# Altium footprint library Serial_NOR_Flash.PcbLib: 12 footprints
Each footprint in its own frame and in the unit in brackets; x right, y up, seen from the top. Pads: shape width x height; smd on the part's side, far side on the other; paste and mask are expansions set on the pad; w line width, h text height; cw(c..) or ccw(c..) is an arc to the next point about the centre after c.
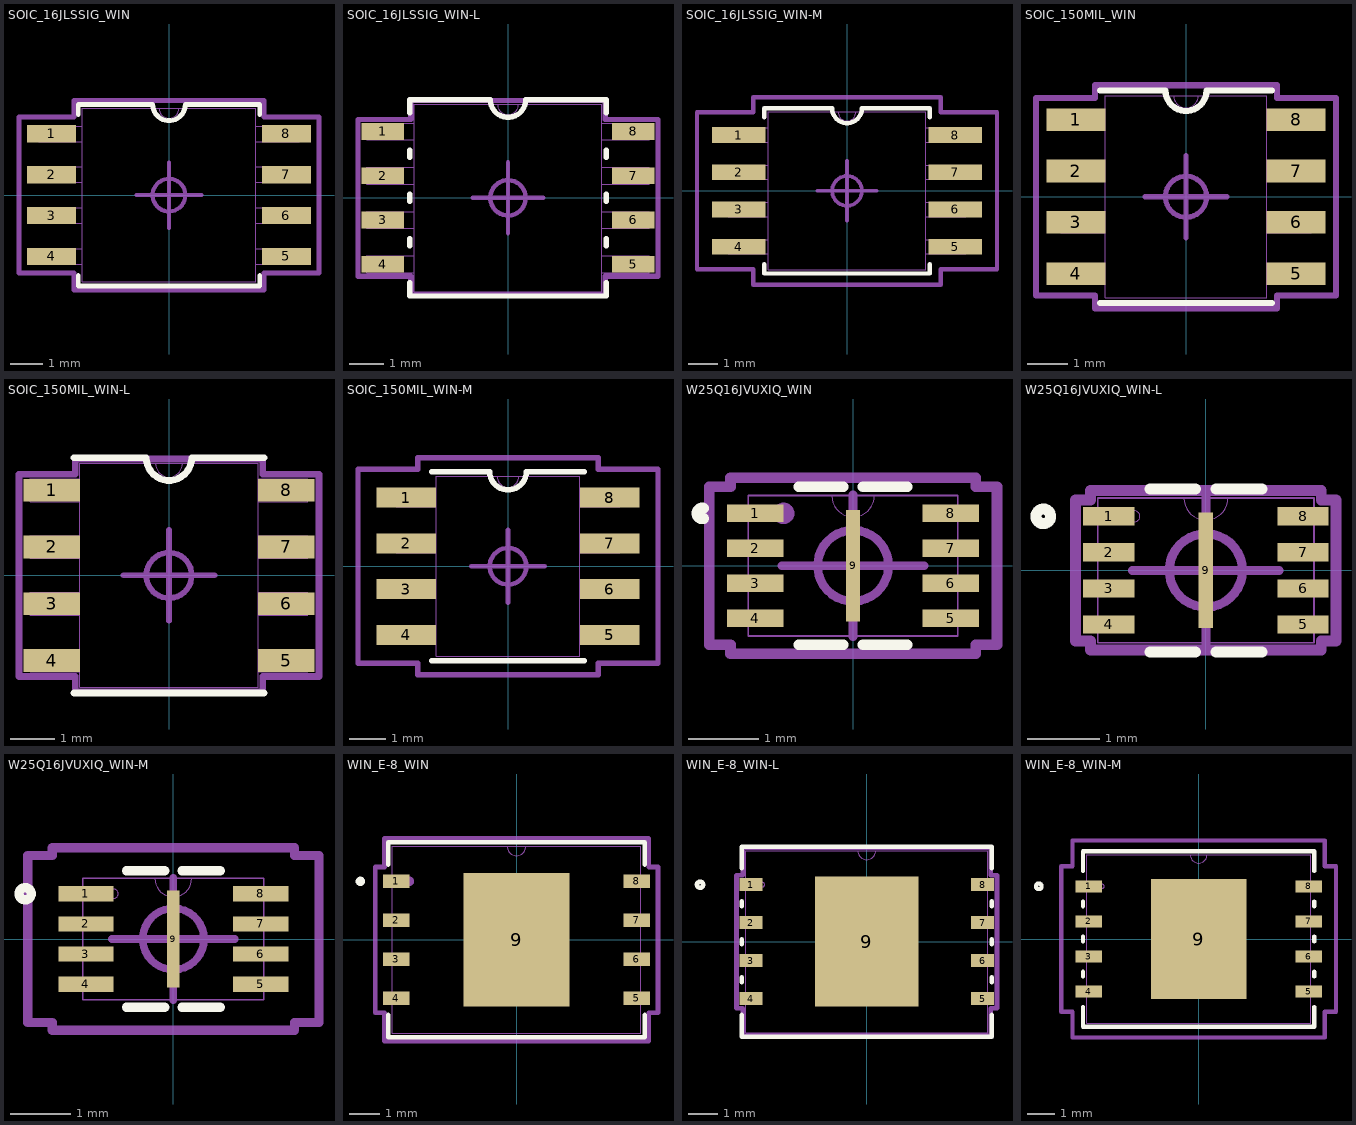
[diagram p0: the footprints below, top view; thin cyan lines are the x and y axes]

## SOIC_16JLSSIG_WIN [mil]
pads (8):
  rect 60x21 smd: 1(-143.5,75) 2(-143.5,25) 3(-143.5,-25) 4(-143.5,-75) 5(143.5,-75) 6(143.5,-25) 7(143.5,25) 8(143.5,75)
Top Overlay:
  lines w6: -111,-98.36 -111,-111 111,-111 111,-98.36 ; -111,98.36 -111,111 -20,111 ccw(c0,111) 20,111 111,111 111,98.36
Mechanical 13:
  lines w0: -12,106 ccw(c0,106) 12,106
  lines w1: -159.5,-84.5 -106,-84.5 -106,-65.5 -159.5,-65.5 -159.5,-84.5 ; -159.5,-34.5 -106,-34.5 -106,-15.5 -159.5,-15.5 -159.5,-34.5 ; -159.5,15.5 -106,15.5 -106,34.5 -159.5,34.5 -159.5,15.5 ; -159.5,65.5 -106,65.5 -106,84.5 -159.5,84.5 -159.5,65.5 ; -106,-106 -106,106 106,106 106,-106 -106,-106 ; 106,-84.5 159.5,-84.5 159.5,-65.5 106,-65.5 106,-84.5 ; 106,-34.5 159.5,-34.5 159.5,-15.5 106,-15.5 106,-34.5 ; 106,15.5 159.5,15.5 159.5,34.5 106,34.5 106,15.5 ; 106,65.5 159.5,65.5 159.5,84.5 106,84.5 106,65.5
Mechanical 15:
  circle w5: c0,0 r20
  lines w5: -40,0 40,0 ; 0,-40 0,40
  lines w6: -183.5,-95.5 -116,-95.5 -116,-116 116,-116 116,-95.5 183.5,-95.5 183.5,95.5 116,95.5 116,116 -116,116 -116,95.5 -183.5,95.5 -183.5,-95.5
3D body "SOIC_16JLSSIG_WIN.step": height 85.12, standoff 0, extent -159.49,-105.98 159.49,105.98

## SOIC_16JLSSIG_WIN-L [mil]
pads (8):
  rect 48x19 smd paste+0: 1(-141.5,75) 2(-141.5,25) 3(-141.5,-25) 4(-141.5,-75) 5(141.5,-75) 6(141.5,-25) 7(141.5,25) 8(141.5,75)
Top Overlay:
  lines w6: -111,-95.87 -111,-111 111,-111 111,-95.87 ; -111,-54.13 -111,-45.87 ; -111,-4.13 -111,4.13 ; -111,45.87 -111,54.13 ; -111,95.87 -111,111 -20,111 ccw(c0,111) 20,111 111,111 111,95.87 ; 111,-54.13 111,-45.87 ; 111,-4.13 111,4.13 ; 111,45.87 111,54.13
Mechanical 13:
  lines w0: -12,106 ccw(c0,106) 12,106
  lines w1: -159.5,-84.5 -106,-84.5 -106,-65.5 -159.5,-65.5 -159.5,-84.5 ; -159.5,-34.5 -106,-34.5 -106,-15.5 -159.5,-15.5 -159.5,-34.5 ; -159.5,15.5 -106,15.5 -106,34.5 -159.5,34.5 -159.5,15.5 ; -159.5,65.5 -106,65.5 -106,84.5 -159.5,84.5 -159.5,65.5 ; -106,-106 -106,106 106,106 106,-106 -106,-106 ; 106,-84.5 159.5,-84.5 159.5,-65.5 106,-65.5 106,-84.5 ; 106,-34.5 159.5,-34.5 159.5,-15.5 106,-15.5 106,-34.5 ; 106,15.5 159.5,15.5 159.5,34.5 106,34.5 106,15.5 ; 106,65.5 159.5,65.5 159.5,84.5 106,84.5 106,65.5
Mechanical 15:
  circle w5: c0,0 r20
  lines w5: -40,0 40,0 ; 0,-40 0,40
  lines w6: -169.5,-88.5 -110,-88.5 -110,-110 110,-110 110,-88.5 169.5,-88.5 169.5,88.5 110,88.5 110,110 -110,110 -110,88.5 -169.5,88.5 -169.5,-88.5
3D body "SOIC_16JLSSIG_WIN.step": height 85.12, standoff 0, extent -159.49,-105.98 159.49,105.98

## SOIC_16JLSSIG_WIN-M [mil]
pads (8):
  rect 72x21 smd: 1(-145.5,75) 2(-145.5,25) 3(-145.5,-25) 4(-145.5,-75) 5(145.5,-75) 6(145.5,-25) 7(145.5,25) 8(145.5,75)
Top Overlay:
  lines w6: -111,-98.6 -111,-111 111,-111 111,-98.6 ; -111,98.6 -111,111 -20,111 ccw(c0,111) 20,111 111,111 111,98.6
Mechanical 13:
  lines w0: -12,106 ccw(c0,106) 12,106
  lines w1: -159.5,-84.5 -106,-84.5 -106,-65.5 -159.5,-65.5 -159.5,-84.5 ; -159.5,-34.5 -106,-34.5 -106,-15.5 -159.5,-15.5 -159.5,-34.5 ; -159.5,15.5 -106,15.5 -106,34.5 -159.5,34.5 -159.5,15.5 ; -159.5,65.5 -106,65.5 -106,84.5 -159.5,84.5 -159.5,65.5 ; -106,-106 -106,106 106,106 106,-106 -106,-106 ; 106,-84.5 159.5,-84.5 159.5,-65.5 106,-65.5 106,-84.5 ; 106,-34.5 159.5,-34.5 159.5,-15.5 106,-15.5 106,-34.5 ; 106,15.5 159.5,15.5 159.5,34.5 106,34.5 106,15.5 ; 106,65.5 159.5,65.5 159.5,84.5 106,84.5 106,65.5
Mechanical 15:
  circle w5: c0,0 r20
  lines w5: -40,0 40,0 ; 0,-40 0,40
  lines w6: -201.5,-105.5 -126,-105.5 -126,-126 126,-126 126,-105.5 201.5,-105.5 201.5,105.5 126,105.5 126,126 -126,126 -126,105.5 -201.5,105.5 -201.5,-105.5
3D body "SOIC_16JLSSIG_WIN.step": height 85.12, standoff 0, extent -159.49,-105.98 159.49,105.98

## SOIC_150MIL_WIN [mil]
pads (8):
  rect 57.5x22 smd: 1(-107.25,75) 2(-107.25,25) 3(-107.25,-25) 4(-107.25,-75) 5(107.25,-75) 6(107.25,-25) 7(107.25,25) 8(107.25,75)
Top Overlay:
  lines w6: -83.5,-103.5 83.5,-103.5 ; -83.5,103.5 -20,103.5 ccw(c0,103.5) 20,103.5 83.5,103.5
Mechanical 13:
  lines w0: -12,98.5 ccw(c0,98.5) 12,98.5
  lines w1: -122,-85 -122,-65 -78.5,-65 -78.5,-85 -122,-85 ; -122,-35 -122,-15 -78.5,-15 -78.5,-35 -122,-35 ; -122,15 -122,35 -78.5,35 -78.5,15 -122,15 ; -122,65 -122,85 -78.5,85 -78.5,65 -122,65 ; -78.5,-98.5 78.5,-98.5 78.5,98.5 -78.5,98.5 -78.5,-98.5 ; 78.5,-85 78.5,-65 122,-65 122,-85 78.5,-85 ; 78.5,-35 78.5,-15 122,-15 122,-35 78.5,-35 ; 78.5,15 78.5,35 122,35 122,15 78.5,15 ; 78.5,65 78.5,85 122,85 122,65 78.5,65
Mechanical 15:
  circle w5: c0,0 r20
  lines w5: -40,0 40,0 ; 0,-40 0,40
  lines w6: -146,-96 -146,96 -88.5,96 -88.5,108.5 88.5,108.5 88.5,96 146,96 146,-96 88.5,-96 88.5,-108.5 -88.5,-108.5 -88.5,-96 -146,-96
3D body "SOIC_150MIL_WIN.step": height 69.09, standoff 0, extent -122.01,-98.5 122.01,98.5

## SOIC_150MIL_WIN-L [mil]
pads (8):
  rect 49.5x20 smd: 1(-103.25,75) 2(-103.25,25) 3(-103.25,-25) 4(-103.25,-75) 5(103.25,-75) 6(103.25,-25) 7(103.25,25) 8(103.25,75)
Top Overlay:
  lines w6: -83.5,-103.5 83.5,-103.5 ; -83.5,103.5 -20,103.5 ccw(c0,103.5) 20,103.5 83.5,103.5
Mechanical 13:
  lines w0: -12,98.5 ccw(c0,98.5) 12,98.5
  lines w1: -122,-85 -122,-65 -78.5,-65 -78.5,-85 -122,-85 ; -122,-35 -122,-15 -78.5,-15 -78.5,-35 -122,-35 ; -122,15 -122,35 -78.5,35 -78.5,15 -122,15 ; -122,65 -122,85 -78.5,85 -78.5,65 -122,65 ; -78.5,-98.5 78.5,-98.5 78.5,98.5 -78.5,98.5 -78.5,-98.5 ; 78.5,-85 78.5,-65 122,-65 122,-85 78.5,-85 ; 78.5,-35 78.5,-15 122,-15 122,-35 78.5,-35 ; 78.5,15 78.5,35 122,35 122,15 78.5,15 ; 78.5,65 78.5,85 122,85 122,65 78.5,65
Mechanical 15:
  circle w5: c0,0 r20
  lines w5: -40,0 40,0 ; 0,-40 0,40
  lines w6: -132,-89 -132,89 -82.5,89 -82.5,102.5 82.5,102.5 82.5,89 132,89 132,-89 82.5,-89 82.5,-102.5 -82.5,-102.5 -82.5,-89 -132,-89
3D body "SOIC_150MIL_WIN.step": height 69.09, standoff 0, extent -122.01,-98.5 122.01,98.5

## SOIC_150MIL_WIN-M [mil]
pads (8):
  rect 65.5x22 smd: 1(-111.25,75) 2(-111.25,25) 3(-111.25,-25) 4(-111.25,-75) 5(111.25,-75) 6(111.25,-25) 7(111.25,25) 8(111.25,75)
Top Overlay:
  lines w6: -83.5,-103.5 83.5,-103.5 ; -83.5,103.5 -20,103.5 ccw(c0,103.5) 20,103.5 83.5,103.5
Mechanical 13:
  lines w0: -12,98.5 ccw(c0,98.5) 12,98.5
  lines w1: -122,-85 -78.5,-85 -78.5,-65 -122,-65 -122,-85 ; -122,-35 -78.5,-35 -78.5,-15 -122,-15 -122,-35 ; -122,15 -78.5,15 -78.5,35 -122,35 -122,15 ; -122,65 -78.5,65 -78.5,85 -122,85 -122,65 ; -78.5,-98.5 -78.5,98.5 78.5,98.5 78.5,-98.5 -78.5,-98.5 ; 78.5,-85 122,-85 122,-65 78.5,-65 78.5,-85 ; 78.5,-35 122,-35 122,-15 78.5,-15 78.5,-35 ; 78.5,15 122,15 122,35 78.5,35 78.5,15 ; 78.5,65 122,65 122,85 78.5,85 78.5,65
Mechanical 15:
  circle w5: c0,0 r20
  lines w5: -40,0 40,0 ; 0,-40 0,40
  lines w6: -164,-106 -98.5,-106 -98.5,-118.5 98.5,-118.5 98.5,-106 164,-106 164,106 98.5,106 98.5,118.5 -98.5,118.5 -98.5,106 -164,106 -164,-106
3D body "SOIC_150MIL_WIN.step": height 69.09, standoff 0, extent -122.01,-98.5 122.01,98.5

## W25Q16JVUXIQ_WIN [mil]
pads (9):
  rect 32x10 smd: 1(-55.06,29.53) 2(-55.06,9.84) 3(-55.06,-9.84) 4(-55.06,-29.53) 5(55.06,-29.53) 6(55.06,-9.84) 7(55.06,9.84) 8(55.06,29.53)
  rect 8x63 smd: 9(0,0)
Top Overlay:
  lines w6: -84.16,26.62 cw(c-84.9,29.53) -84.16,32.43 ; -30.56,-44.5 -5.62,-44.5 ; -30.56,44.5 -5.62,44.5 ; 5.62,-44.5 30.56,-44.5 ; 5.62,44.5 30.56,44.5
Mechanical 13:
  circle w6: c-39.06,29.53 r3
  lines w0: -12,39.5 ccw(c0,39.5) 12,39.5
  lines w1: -59,-39.5 -59,39.5 59,39.5 59,-39.5 -59,-39.5
Mechanical 15:
  circle w5: c0,0 r20
  lines w5: -40,0 40,0 ; 0,-40 0,40
  lines w6: -81.06,-44.53 -69,-44.53 -69,-49.5 69,-49.5 69,-44.53 81.06,-44.53 81.06,44.53 69,44.53 69,49.5 -69,49.5 -69,44.53 -81.06,44.53 -81.06,-44.53
3D body "W25Q16JVUXIQ_WIN.step": height 24.09, standoff 0, extent -59.06,-39.49 59.06,39.49

## W25Q16JVUXIQ_WIN-L [mil]
pads (9):
  rect 28x10 smd: 1(-53.06,29.53) 2(-53.06,9.84) 3(-53.06,-9.84) 4(-53.06,-29.53) 5(53.06,-29.53) 6(53.06,-9.84) 7(53.06,9.84) 8(53.06,29.53)
  rect 8x63 smd: 9(0,0)
Top Overlay:
  circle w6: c-88.74,29.53 r4
  lines w6: -30.56,-44.5 -5.62,-44.5 ; -30.56,44.5 -5.62,44.5 ; 5.62,-44.5 30.56,-44.5 ; 5.62,44.5 30.56,44.5
Mechanical 13:
  circle w0: c-39.06,29.53 r3
  lines w0: -12,39.5 ccw(c0,39.5) 12,39.5
  lines w1: -59,-39.5 -59,39.5 59,39.5 59,-39.5 -59,-39.5
Mechanical 15:
  circle w5: c0,0 r20
  lines w5: -40,0 40,0 ; 0,-40 0,40
  lines w6: -71.06,-38.53 -63,-38.53 -63,-43.5 63,-43.5 63,-38.53 71.06,-38.53 71.06,38.53 63,38.53 63,43.5 -63,43.5 -63,38.53 -71.06,38.53 -71.06,-38.53
3D body "W25Q16JVUXIQ_WIN.step": height 24.09, standoff 0, extent -59.06,-39.49 59.06,39.49

## W25Q16JVUXIQ_WIN-M [mil]
pads (9):
  rect 36x10 smd: 1(-57.06,29.53) 2(-57.06,9.84) 3(-57.06,-9.84) 4(-57.06,-29.53) 5(57.06,-29.53) 6(57.06,-9.84) 7(57.06,9.84) 8(57.06,29.53)
  rect 8x63 smd: 9(0,0)
Top Overlay:
  circle w6: c-96.74,29.53 r4
  lines w6: -30.56,-44.5 -5.62,-44.5 ; -30.56,44.5 -5.62,44.5 ; 5.62,-44.5 30.56,-44.5 ; 5.62,44.5 30.56,44.5
Mechanical 13:
  circle w0: c-39.06,29.53 r3
  lines w0: -12,39.5 ccw(c0,39.5) 12,39.5
  lines w1: -59,-39.5 -59,39.5 59,39.5 59,-39.5 -59,-39.5
Mechanical 15:
  circle w5: c0,0 r20
  lines w5: -40,0 40,0 ; 0,-40 0,40
  lines w6: -95.06,-54.53 -79,-54.53 -79,-59.5 79,-59.5 79,-54.53 95.06,-54.53 95.06,54.53 79,54.53 79,59.5 -79,59.5 -79,54.53 -95.06,54.53 -95.06,-54.53
3D body "W25Q16JVUXIQ_WIN.step": height 24.09, standoff 0, extent -59.06,-39.49 59.06,39.49

## WIN_E-8_WIN [mil]
pads (9):
  rect 34x17 smd: 1(-154.5,75) 2(-154.5,25) 3(-154.5,-25) 4(-154.5,-75) 5(154.5,-75) 6(154.5,-25) 7(154.5,25) 8(154.5,75)
  rect 136x171 smd: 9(0,0)
Top Overlay:
  circle w6: c-200.5,75 r3
  lines w6: -164.5,-96.6 -164.5,-125 164.5,-125 164.5,-96.6 ; -164.5,96.6 -164.5,125 164.5,125 164.5,96.6
Top Paste:
  region: -3.94,81.56 -64.06,81.56 -64.06,32.44 -3.94,32.44
  region: -3.94,24.56 -64.06,24.56 -64.06,-24.56 -3.94,-24.56
  region: -3.94,-32.44 -64.06,-32.44 -64.06,-81.56 -3.94,-81.56
  region: 64.06,81.56 3.94,81.56 3.94,32.44 64.06,32.44
  region: 64.06,24.56 3.94,24.56 3.94,-24.56 64.06,-24.56
  region: 64.06,-32.44 3.94,-32.44 3.94,-81.56 64.06,-81.56
Mechanical 13:
  circle w6: c-137.5,75 r3
  lines w0: -12,120 ccw(c0,120) 12,120
  lines w1: -159.5,-120 159.5,-120 159.5,120 -159.5,120 -159.5,-120
Mechanical 15:
  circle w5: c0,0 r20
  lines w5: -40,0 40,0 ; 0,-40 0,40
  lines w6: -181.5,-93.5 -181.5,93.5 -169.5,93.5 -169.5,130 169.5,130 169.5,93.5 181.5,93.5 181.5,-93.5 169.5,-93.5 169.5,-130 -169.5,-130 -169.5,-93.5 -181.5,-93.5
3D body "WIN_E-8_WIN.step": height 31.1, standoff 0, extent -159.49,-120 159.49,120

## WIN_E-8_WIN-L [mil]
pads (9):
  rect 30x17 smd: 1(-152.5,75) 2(-152.5,25) 3(-152.5,-25) 4(-152.5,-75) 5(152.5,-75) 6(152.5,-25) 7(152.5,25) 8(152.5,75)
  rect 136x171 smd: 9(0,0)
Top Overlay:
  circle w6: c-219.5,75 r4
  lines w6: -164.5,-96.6 -164.5,-125 164.5,-125 164.5,-96.6 ; -164.5,-53.4 -164.5,-46.6 ; -164.5,-3.4 -164.5,3.4 ; -164.5,46.6 -164.5,53.4 ; -164.5,96.6 -164.5,125 164.5,125 164.5,96.6 ; 164.5,-53.4 164.5,-46.6 ; 164.5,-3.4 164.5,3.4 ; 164.5,46.6 164.5,53.4
Top Paste:
  region: -3.94,81.56 -64.06,81.56 -64.06,32.44 -3.94,32.44
  region: -3.94,24.56 -64.06,24.56 -64.06,-24.56 -3.94,-24.56
  region: -3.94,-32.44 -64.06,-32.44 -64.06,-81.56 -3.94,-81.56
  region: 64.06,81.56 3.94,81.56 3.94,32.44 64.06,32.44
  region: 64.06,24.56 3.94,24.56 3.94,-24.56 64.06,-24.56
  region: 64.06,-32.44 3.94,-32.44 3.94,-81.56 64.06,-81.56
Mechanical 13:
  circle w0: c-137.5,75 r3
  lines w0: -12,120 ccw(c0,120) 12,120
  lines w1: -159.5,-120 159.5,-120 159.5,120 -159.5,120 -159.5,-120
Mechanical 15:
  circle w5: c0,0 r20
  lines w5: -40,0 40,0 ; 0,-40 0,40
  lines w6: -171.5,-87.5 -171.5,87.5 -163.5,87.5 -163.5,124 163.5,124 163.5,87.5 171.5,87.5 171.5,-87.5 163.5,-87.5 163.5,-124 -163.5,-124 -163.5,-87.5 -171.5,-87.5
3D body "WIN_E-8_WIN.step": height 31.1, standoff 0, extent -159.49,-120 159.49,120

## WIN_E-8_WIN-M [mil]
pads (9):
  rect 38x17 smd: 1(-156.5,75) 2(-156.5,25) 3(-156.5,-25) 4(-156.5,-75) 5(156.5,-75) 6(156.5,-25) 7(156.5,25) 8(156.5,75)
  rect 136x171 smd: 9(0,0)
Top Overlay:
  circle w6: c-227.5,75 r4
  lines w6: -164.5,-96.6 -164.5,-125 164.5,-125 164.5,-96.6 ; -164.5,-53.4 -164.5,-46.6 ; -164.5,-3.4 -164.5,3.4 ; -164.5,46.6 -164.5,53.4 ; -164.5,96.6 -164.5,125 164.5,125 164.5,96.6 ; 164.5,-53.4 164.5,-46.6 ; 164.5,-3.4 164.5,3.4 ; 164.5,46.6 164.5,53.4
Top Paste:
  region: 64.06,-32.44 3.94,-32.44 3.94,-81.56 64.06,-81.56
  region: 64.06,24.56 3.94,24.56 3.94,-24.56 64.06,-24.56
  region: 64.06,81.56 3.94,81.56 3.94,32.44 64.06,32.44
  region: -3.94,-32.44 -64.06,-32.44 -64.06,-81.56 -3.94,-81.56
  region: -3.94,24.56 -64.06,24.56 -64.06,-24.56 -3.94,-24.56
  region: -3.94,81.56 -64.06,81.56 -64.06,32.44 -3.94,32.44
Mechanical 13:
  circle w0: c-137.5,75 r3
  lines w0: -12,120 ccw(c0,120) 12,120
  lines w1: -159.5,-120 -159.5,120 159.5,120 159.5,-120 -159.5,-120
Mechanical 15:
  circle w5: c0,0 r20
  lines w5: -40,0 40,0 ; 0,-40 0,40
  lines w6: -195.5,-103.5 -179.5,-103.5 -179.5,-140 179.5,-140 179.5,-103.5 195.5,-103.5 195.5,103.5 179.5,103.5 179.5,140 -179.5,140 -179.5,103.5 -195.5,103.5 -195.5,-103.5
3D body "WIN_E-8_WIN.step": height 31.1, standoff 0, extent -159.49,-120 159.49,120